# EAGLE library part 418117170905 (library Wurth_Elektronik_Electromechanic_Switch_rev15d)
WS-BS 2.54 mm compact THT Dip Switch with flat actuator, 5 Pole
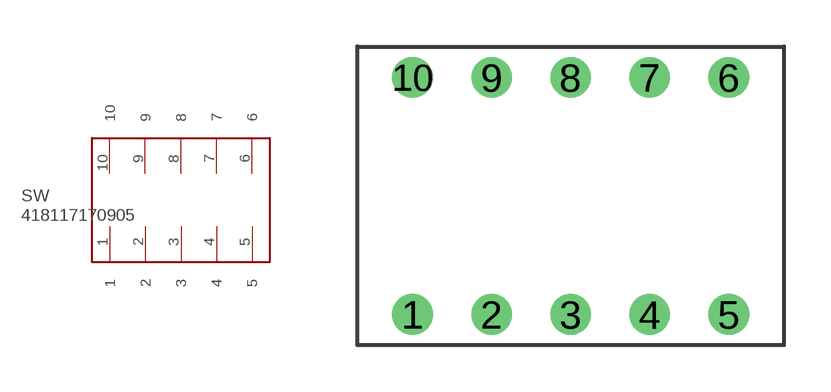
[diagram p69: symbol with the pads of 418117170905; footprint 418117170905]

Designator prefix SW

## 418117170905  [418117170905]
1  1
2  2
3  3
4  4
5  5
6  6
7  7
8  8
9  9
10  10

## Footprint 418117170905 (pad centres in mm)
WS-BS 2.54 mm compact THT Dip Switch with flat actuator, 5 Pole
drill 0.8: 1 -5.08,-3.81; 2 -2.54,-3.81; 3 0,-3.81; 4 2.54,-3.81; 5 5.08,-3.81; 6 5.08,3.81; 7 2.54,3.81; 8 0,3.81; 9 -2.54,3.81; 10 -5.08,3.81